# Altium footprint library CN_SOCKET6.PcbLib: 1 footprints
Each footprint in its own frame and in the unit in brackets; x right, y up, seen from the top. Pads: shape width x height; smd on the part's side, far side on the other; paste and mask are expansions set on the pad; w line width, h text height; cw(c..) or ccw(c..) is an arc to the next point about the centre after c.
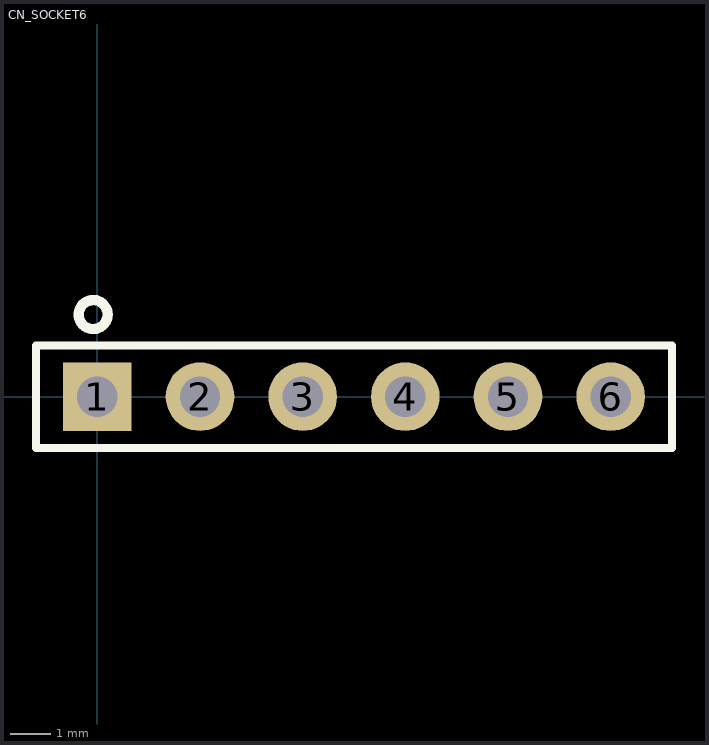
[diagram p0: the footprint, top view; thin cyan lines are the x and y axes]

## CN_SOCKET6 [mm] "Connector; Header; 6 Position"
pads (6):
  rect 1.7x1.7 hole 1: 1(0,0)
  round 1.7 hole 1: 2(2.54,0) 3(5.08,0) 4(7.62,0) 5(10.16,0) 6(12.7,0)
Top Overlay:
  circle w0.254: c-0.105,2.032 r0.359
  lines w0.2: -1.524,-1.27 -1.524,1.27 14.224,1.27 14.224,-1.27 -1.524,-1.27
3D body: height 8.52, standoff -2.63, extent -1.524,-1.27 14.224,1.143